# Altium footprint library r0805.PcbLib: 1 footprints
Each footprint in its own frame and in the unit in brackets; x right, y up, seen from the top. Pads: shape width x height; smd on the part's side, far side on the other; paste and mask are expansions set on the pad; w line width, h text height; cw(c..) or ccw(c..) is an arc to the next point about the centre after c.
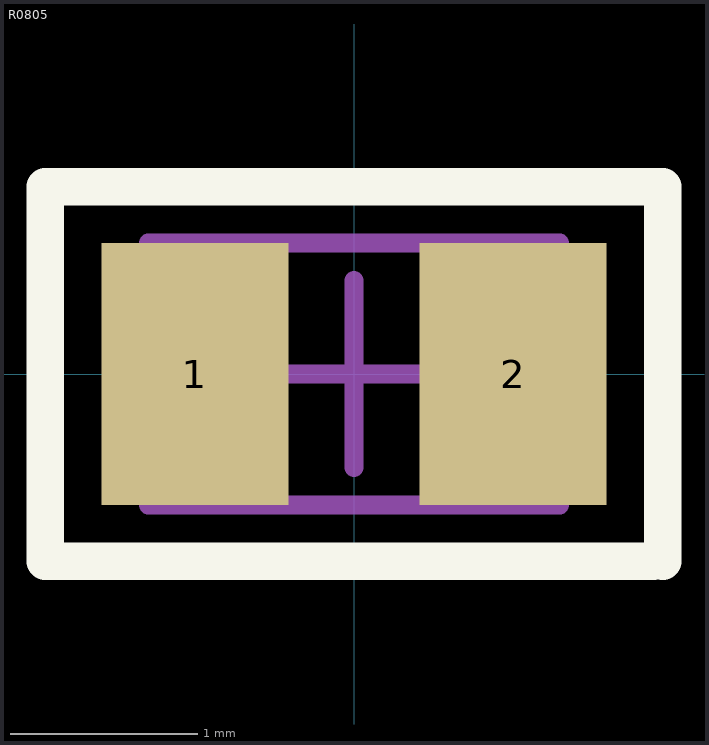
[diagram p0: the footprint, top view; thin cyan lines are the x and y axes]

## R0805 [mm] "Chip Resistor, 2-Leads, Body 2,00x1,25mm, IPC Medium Density"
height 0.65
pads (2):
  rect 1x1.4 smd: 1(-0.85,0) 2(0.85,0)
Top Overlay:
  lines w0.2: 1.6,-1 -1.65,-1 -1.65,1 1.65,1 1.65,-1
Top Comment:
  text ".Comment" at 1,1.2 h1.2
Top Designator:
  text ".Designator" at -0.5,1.2 h1.2
Top Component Outline:
  lines w0.1: -1.1,-0.7 1.1,-0.7 1.1,0.7 -1.1,0.7 -1.1,-0.7
Top Courtyard (Mech15):
  lines w0.05: -1.7,-1 1.7,-1 1.7,1 -1.7,1 -1.7,-1
  lines w0.1: -0.5,0 0.5,0 ; 0,-0.5 0,0.5
3D body "R0805.STEP": height 0.43, standoff -0.03, extent -1,-0.63 1,0.63